# Altium schematic symbol library Cap_Taiyo_Yuden_TMK105B7104KV-FR_100nF.SchLib: 1 symbol
Pins are listed as number, name and electrical type; pins without a type are passive.

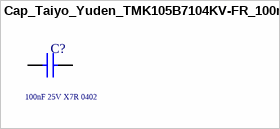
[diagram p0: symbol Cap_Taiyo_Yuden_TMK105B7104KV-FR_100nF]

## Cap_Taiyo_Yuden_TMK105B7104KV-FR_100nF
designator C?  Capacitance: 100nF 25V X7R 0402  (hidden comment: Cap_Taiyo_Yuden_TMK105B7104KV-FR_100nF)
CAP CER 100nF 25V X7R 0402; Supplier 1: Mouser; Supplier Part Number 1: 963-TMK105B7104KV-FR
footprint Cap_Taiyo_Yuden_TMK105B7104KV-FR_100nF
pins: 1, 2